# Altium footprint library KF2EDGK.PcbLib: 86 footprints (part 6 of 6)
Each footprint in its own frame and in the unit in brackets; x right, y up, seen from the top. Pads: shape width x height; smd on the part's side, far side on the other; paste and mask are expansions set on the pad; w line width, h text height; cw(c..) or ccw(c..) is an arc to the next point about the centre after c.
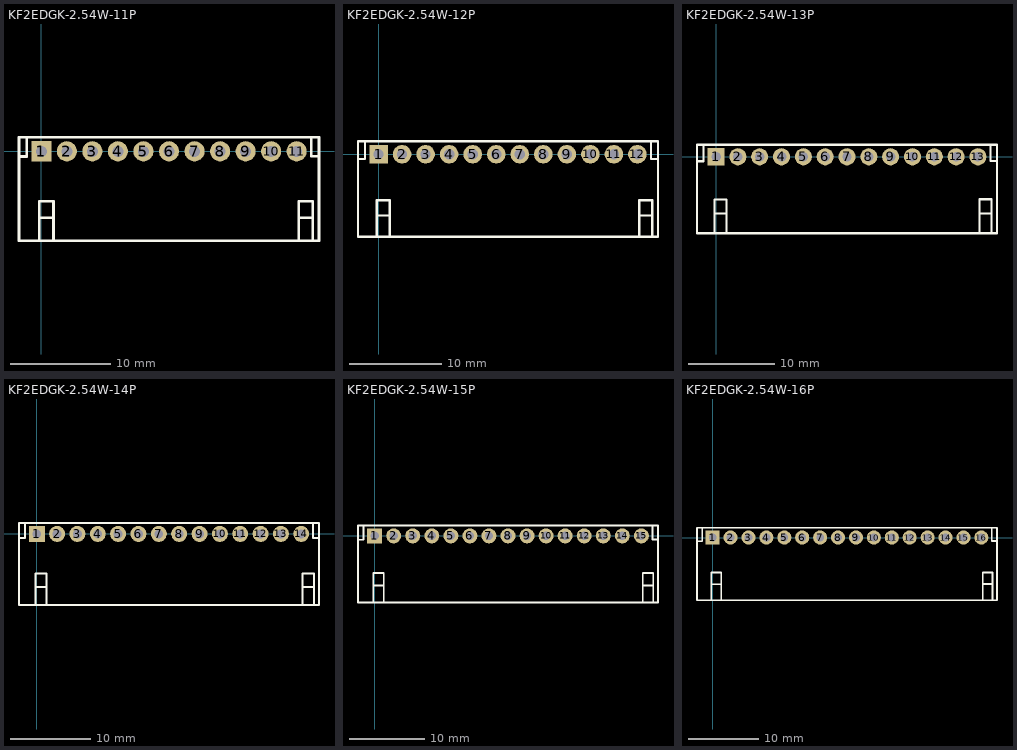
[diagram p5: the footprints below, top view; thin cyan lines are the x and y axes]

## KF2EDGK-2.54W-11P [mm]
pads (11):
  rect 2x2 hole 1.1: 1(0,0)
  round 2 hole 1.1: 2(2.54,0) 3(5.08,0) 4(7.62,0) 5(10.16,0) 6(12.7,0) 7(15.24,0) 8(17.78,0) 9(20.32,0) 10(22.86,0) 11(25.4,0)
Top Overlay:
  lines w0.254: -2.22,-0.518 -1.463,-0.518 -1.463,1.387 ; -2.22,1.387 -2.22,-8.9 27.62,-8.9 ; -2.22,1.397 27.62,1.397 27.62,-8.89 ; -0.188,-8.9 -0.188,-4.963 1.209,-4.963 1.209,-8.9 ; -0.188,-6.614 1.209,-6.614 ; 25.588,-8.89 25.588,-4.953 26.985,-4.953 26.985,-8.89 ; 25.588,-6.604 26.985,-6.604 ; 26.863,1.397 26.863,-0.508 27.62,-0.508
3D body "KF2EDGK-2.54W-11P.STEP": height 8.15, standoff -3.25, extent -2.235,-8.957 27.605,1.143

## KF2EDGK-2.54W-12P [mm]
pads (12):
  rect 2x2 hole 1.1: 1(0,0)
  round 2 hole 1.1: 2(2.54,0) 3(5.08,0) 4(7.62,0) 5(10.16,0) 6(12.7,0) 7(15.24,0) 8(17.78,0) 9(20.32,0) 10(22.86,0) 11(25.4,0) 12(27.94,0)
Top Overlay:
  lines w0.254: -2.22,-0.518 -1.463,-0.518 -1.463,1.387 ; -2.22,1.387 -2.22,-8.9 30.16,-8.9 ; -2.22,1.397 30.16,1.397 30.16,-8.89 ; -0.188,-8.9 -0.188,-4.963 1.209,-4.963 1.209,-8.9 ; -0.188,-6.614 1.209,-6.614 ; 28.128,-8.89 28.128,-4.953 29.525,-4.953 29.525,-8.89 ; 28.128,-6.604 29.525,-6.604 ; 29.403,1.397 29.403,-0.508 30.16,-0.508
3D body "KF2EDGK-2.54W-12P.STEP": height 8.15, standoff -3.25, extent -2.235,-8.86 30.145,1.24

## KF2EDGK-2.54W-13P [mm]
pads (13):
  rect 2x2 hole 1.1: 1(0,0)
  round 2 hole 1.1: 2(2.54,0) 3(5.08,0) 4(7.62,0) 5(10.16,0) 6(12.7,0) 7(15.24,0) 8(17.78,0) 9(20.32,0) 10(22.86,0) 11(25.4,0) 12(27.94,0) 13(30.48,0)
Top Overlay:
  lines w0.254: -2.22,-0.518 -1.463,-0.518 -1.463,1.387 ; -0.188,-8.9 -0.188,-4.963 1.209,-4.963 1.209,-8.9 ; -0.188,-6.614 1.209,-6.614 ; 30.668,-8.89 30.668,-4.953 32.065,-4.953 32.065,-8.89 ; 30.668,-6.604 32.065,-6.604 ; 31.943,1.397 31.943,-0.508 32.7,-0.508 ; -2.22,-8.9 32.7,-8.9 32.7,-8.89 32.7,1.397 -2.22,1.397 -2.22,1.387 -2.22,-8.9
3D body "KF2EDGK-2.54W-13P.STEP": height 8.15, standoff -3.25, extent -2.184,-8.936 32.736,1.164

## KF2EDGK-2.54W-14P [mm]
pads (14):
  rect 2x2 hole 1.1: 1(0,0)
  round 2 hole 1.1: 2(2.54,0) 3(5.08,0) 4(7.62,0) 5(10.16,0) 6(12.7,0) 7(15.24,0) 8(17.78,0) 9(20.32,0) 10(22.86,0) 11(25.4,0) 12(27.94,0) 13(30.48,0) 14(33.02,0)
Top Overlay:
  lines w0.254: -2.22,-0.518 -1.463,-0.518 -1.463,1.387 ; -0.188,-8.9 -0.188,-4.963 1.209,-4.963 1.209,-8.9 ; -0.188,-6.614 1.209,-6.614 ; 33.208,-8.89 33.208,-4.953 34.605,-4.953 34.605,-8.89 ; 33.208,-6.604 34.605,-6.604 ; 34.483,1.397 34.483,-0.508 35.24,-0.508 ; -2.22,-8.9 -2.22,1.387 -2.22,1.397 35.24,1.397 35.24,-8.89 35.24,-8.9 -2.22,-8.9
3D body "KF2EDGK-2.54W-14P.STEP": height 8.15, standoff -3.25, extent -2.235,-8.911 35.225,1.189

## KF2EDGK-2.54W-15P [mm]
pads (15):
  rect 2x2 hole 1.1: 1(0,0)
  round 2 hole 1.1: 2(2.54,0) 3(5.08,0) 4(7.62,0) 5(10.16,0) 6(12.7,0) 7(15.24,0) 8(17.78,0) 9(20.32,0) 10(22.86,0) 11(25.4,0) 12(27.94,0) 13(30.48,0) 14(33.02,0) 15(35.56,0)
Top Overlay:
  lines w0.254: -2.22,-0.518 -1.463,-0.518 -1.463,1.387 ; -2.22,1.387 -2.22,-8.9 37.78,-8.9 37.78,-8.89 37.78,1.397 -2.22,1.397 ; -0.188,-8.9 -0.188,-4.963 1.209,-4.963 1.209,-8.9 ; -0.188,-6.614 1.209,-6.614 ; 35.748,-8.89 35.748,-4.953 37.145,-4.953 37.145,-8.89 ; 35.748,-6.604 37.145,-6.604 ; 37.023,1.397 37.023,-0.508 37.78,-0.508
3D body "KF2EDGK-2.54W-15P.STEP": height 8.15, standoff -3.25, extent -2.159,-8.86 37.841,1.24

## KF2EDGK-2.54W-16P [mm]
pads (16):
  rect 2x2 hole 1.1: 1(0,0)
  round 2 hole 1.1: 2(2.54,0) 3(5.08,0) 4(7.62,0) 5(10.16,0) 6(12.7,0) 7(15.24,0) 8(17.78,0) 9(20.32,0) 10(22.86,0) 11(25.4,0) 12(27.94,0) 13(30.48,0) 14(33.02,0) 15(35.56,0) 16(38.1,0)
Top Overlay:
  lines w0.254: -2.22,-0.518 -1.463,-0.518 -1.463,1.387 ; -0.188,-8.9 -0.188,-4.963 1.209,-4.963 1.209,-8.9 ; -0.188,-6.614 1.209,-6.614 ; 38.288,-8.89 38.288,-4.953 39.685,-4.953 39.685,-8.89 ; 38.288,-6.604 39.685,-6.604 ; 39.563,1.397 39.563,-0.508 40.32,-0.508 ; 40.32,1.387 -2.22,1.387 -2.22,-8.9 40.32,-8.9 40.32,1.397
3D body "KF2EDGK-2.54W-16P.STEP": height 8.15, standoff -3.25, extent -2.286,-8.987 40.254,1.113